# EAGLE library part ESP32-WROOM-32E (library sb2030_logger)
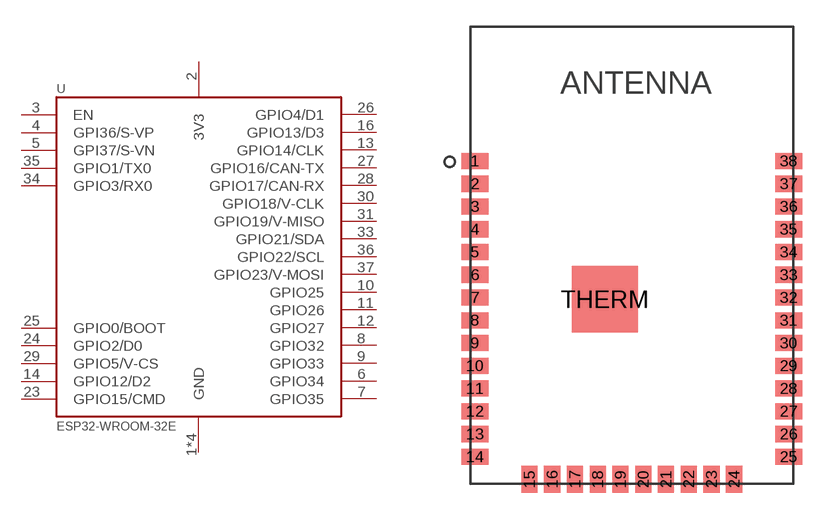
[diagram p9: symbol with the pads of ESPS32-WROOM-32E; footprint ESPS32-WROOM-32E]

Designator prefix -

## ESP32-WROOM-32E  [ESPS32-WROOM-32E]
1  GND
2  3V3
3  EN
4  GPI36/S-VP
5  GPI37/S-VN
6  GPIO34
7  GPIO35
8  GPIO32
9  GPIO33
10  GPIO25
11  GPIO26
12  GPIO27
13  GPIO14/CLK
14  GPIO12/D2
15  GND
16  GPIO13/D3
23  GPIO15/CMD
24  GPIO2/D0
25  GPIO0/BOOT
26  GPIO4/D1
27  GPIO16/CAN-TX
28  GPIO17/CAN-RX
29  GPIO5/V-CS
30  GPIO18/V-CLK
31  GPIO19/V-MISO
33  GPIO21/SDA
34  GPIO3/RX0
35  GPIO1/TX0
36  GPIO22/SCL
37  GPIO23/V-MOSI
38  GND
THERM  GND

## Footprint ESPS32-WROOM-32E (pad centres in mm)
smd 1.5 x 0.9: 1 -8.75,8.34; 2 -8.75,7.07; 3 -8.75,5.8; 4 -8.75,4.53; 5 -8.75,3.26; 6 -8.75,1.99; 7 -8.75,0.72; 8 -8.75,-0.55; 9 -8.75,-1.82; 10 -8.75,-3.09; 11 -8.75,-4.36; 12 -8.75,-5.63; 13 -8.75,-6.9; 14 -8.75,-8.17; 25 8.75,-8.17; 26 8.75,-6.9; 27 8.75,-5.63; 28 8.75,-4.36; 29 8.75,-3.09; 30 8.75,-1.82; 31 8.75,-0.55; 32 8.75,0.72; 33 8.75,1.99; 34 8.75,3.26; 35 8.75,4.53; 36 8.75,5.8; 37 8.75,7.07; 38 8.75,8.34
smd 0.9 x 1.5: 15 -5.71,-9.42; 16 -4.44,-9.42; 17 -3.17,-9.42; 18 -1.9,-9.42; 19 -0.63,-9.42; 20 0.64,-9.42; 21 1.91,-9.42; 22 3.18,-9.42; 23 4.45,-9.42; 24 5.71,-9.42
smd 3.7 x 3.7: THERM -1.5,0.62